# EAGLE library part SGTL5000 (library sgtl5000)
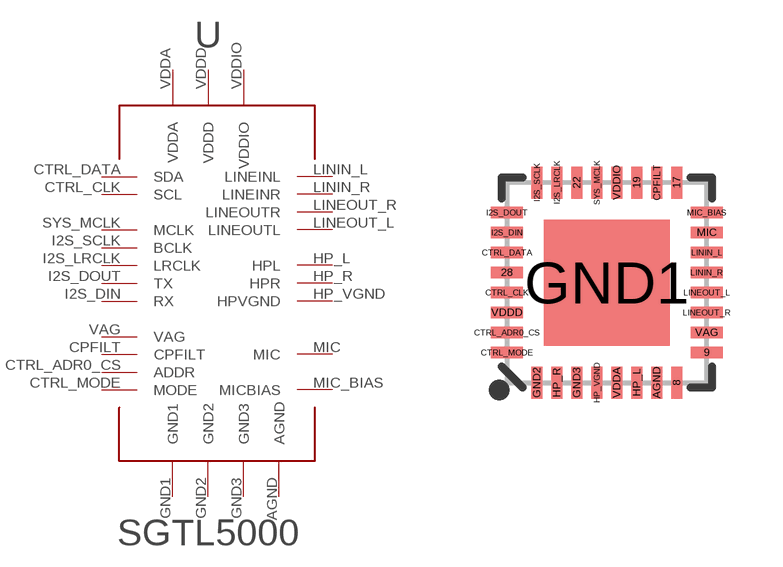
[diagram p0: symbol with the pads of QFN-32-5X5MM; footprint QFN-32-5X5MM]

Designator prefix -

## SGTL5000  [QFN-32-5X5MM]
AGND  AGND
CPFILT  CPFILT
CTRL_ADR0_CS  ADDR
CTRL_CLK  SCL
CTRL_DATA  SDA
CTRL_MODE  MODE
GND1  GND1
GND2  GND2
GND3  GND3
HP_L  HPL
HP_R  HPR
HP_VGND  HPVGND
I2S_DIN  RX
I2S_DOUT  TX
I2S_LRCLK  LRCLK
I2S_SCLK  BCLK
LINEOUT_L  LINEOUTL
LINEOUT_R  LINEOUTR
LININ_L  LINEINL
LININ_R  LINEINR
MIC  MIC
MIC_BIAS  MICBIAS
SYS_MCLK  MCLK
VAG  VAG
VDDA  VDDA
VDDD  VDDD
VDDIO  VDDIO

## Footprint QFN-32-5X5MM (pad centres in mm)
QFN 32-Pin w/ Thermal Pad - 5.0 x 5.0 mm Used by nRF24LU1 and nRF24LE1 Datasheet Example <https://www.sparkfun.com/datasheets/Wireless/Nordic/nRF24LU1P_1_0.pdf>
smd 0.285 x 0.8: 8 1.75,-2.5; 17 1.75,2.5; 19 0.75,2.5; 22 -0.75,2.5; AGND 1.25,-2.5; CPFILT 1.25,2.5; GND2 -1.75,-2.5; GND3 -0.75,-2.5; HP_L 0.75,-2.5; HP_R -1.25,-2.5; HP_VGND -0.25,-2.5; I2S_LRCLK -1.25,2.5; I2S_SCLK -1.75,2.5; SYS_MCLK -0.25,2.5; VDDA 0.25,-2.5; VDDIO 0.25,2.5
smd 0.8 x 0.285: 9 2.5,-1.75; 28 -2.5,0.25; CTRL_ADR0_CS -2.5,-1.25; CTRL_CLK -2.5,-0.25; CTRL_DATA -2.5,0.75; CTRL_MODE -2.5,-1.75; I2S_DIN -2.5,1.25; I2S_DOUT -2.5,1.75; LINEOUT_L 2.5,-0.25; LINEOUT_R 2.5,-0.75; LININ_L 2.5,0.75; LININ_R 2.5,0.25; MIC 2.5,1.25; MIC_BIAS 2.5,1.75; VAG 2.5,-1.25; VDDD -2.5,-0.75
smd 3.15 x 3.15: GND1 0,0